# Altium footprint library fpr.PcbLib: 42 footprints (part 3 of 3)
Each footprint in its own frame and in the unit in brackets; x right, y up, seen from the top. Pads: shape width x height; smd on the part's side, far side on the other; paste and mask are expansions set on the pad; w line width, h text height; cw(c..) or ccw(c..) is an arc to the next point about the centre after c.
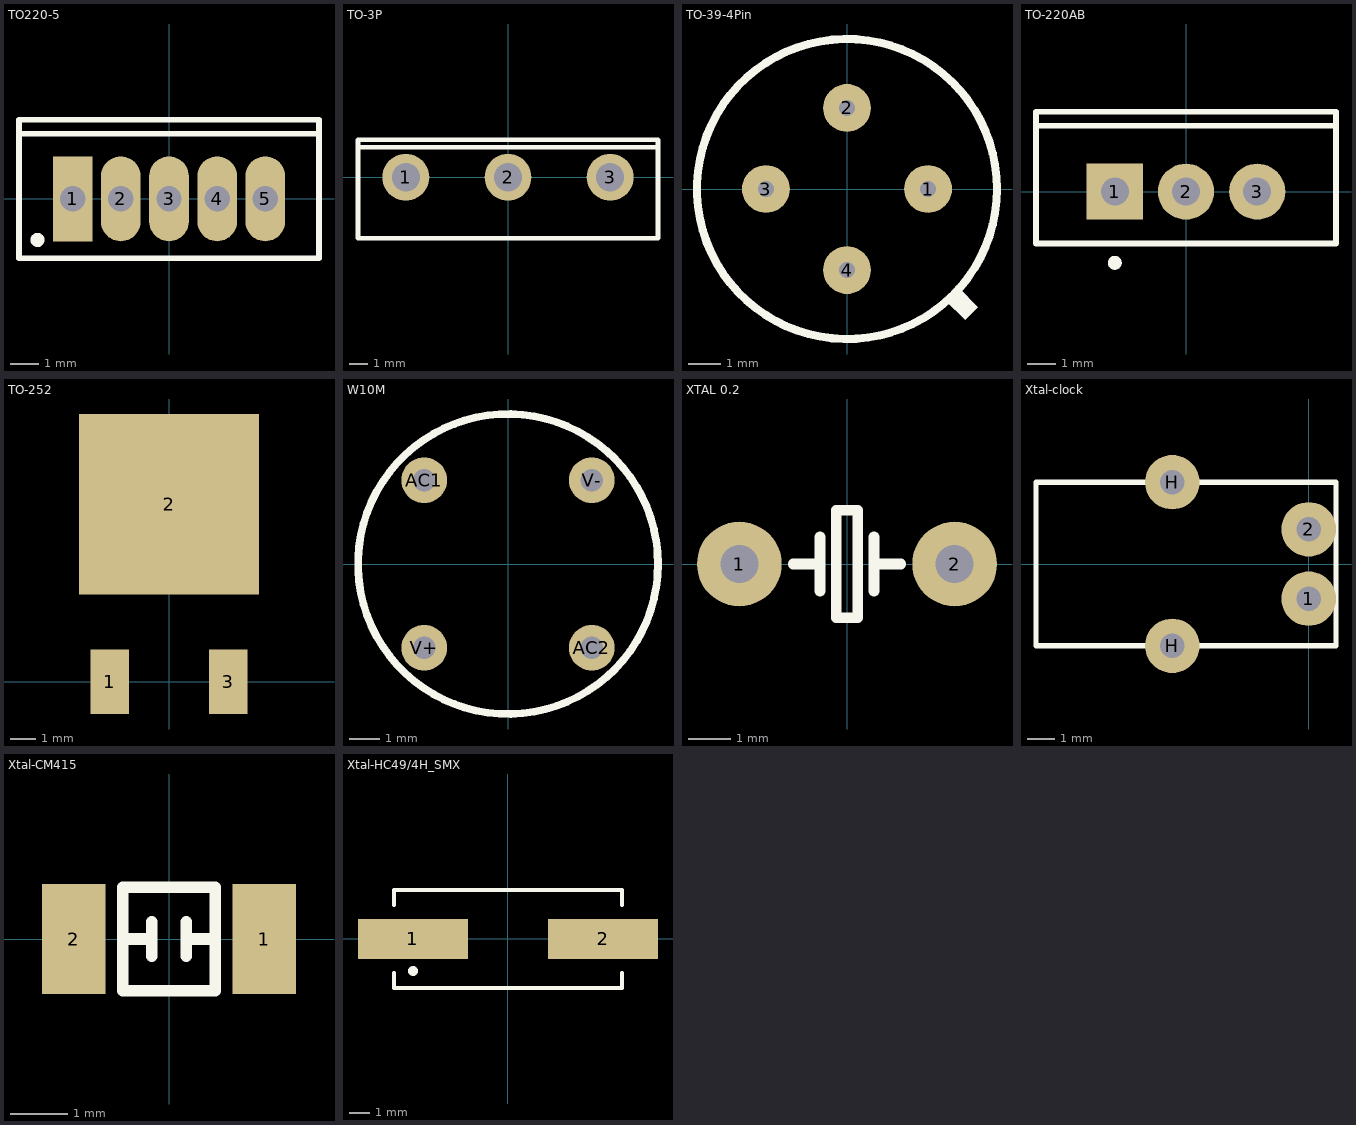
[diagram p2: the footprints below, top view; thin cyan lines are the x and y axes]

## TO220-5 [mm] "TO, Thru-Hole, Vertical, Heatsink Mounted; 5 In-Line Leads; Pitch 1.70 mm"
height 19.6
pads (5):
  rect 1.4x3 hole 0.9: 1(-3.4,0)
  oval 1.4x3 hole 0.9: 2(-1.7,0) 3(0,0) 4(1.7,0) 5(3.4,0)
Top Overlay:
  circle w0.25: c-4.65,-1.45 r0.125
  lines w0.2: -5.3,2.3 5.3,2.3 ; -5.3,-2.1 5.3,-2.1 5.3,2.8 -5.3,2.8 -5.3,-2.1
Mechanical 13:
  lines w0.1: -5.3,2.3 5.3,2.3 ; -5.3,-2.1 -5.3,2.8 5.3,2.8 5.3,-2.1 -5.3,-2.1 ; -3.91,-0.28 -3.91,0.28 -2.89,0.28 -2.89,-0.28 -3.91,-0.28 ; -2.21,-0.28 -2.21,0.28 -1.19,0.28 -1.19,-0.28 -2.21,-0.28 ; -0.51,-0.28 -0.51,0.28 0.51,0.28 0.51,-0.28 -0.51,-0.28 ; 1.19,-0.28 1.19,0.28 2.21,0.28 2.21,-0.28 1.19,-0.28 ; 2.89,-0.28 2.89,0.28 3.91,0.28 3.91,-0.28 2.89,-0.28
Mechanical 15:
  lines w0.1: -0.5,0 0.5,0 ; 0,-0.5 0,0.5
3D body "User Library-to-220-5 v2.STEP": height 16, standoff -2.48, extent -5.08,-1.59 5.08,2.86

## TO-3P [mm]
pads (3):
  round 2.5 hole 1.5: 1(-5.45,0) 2(0,0) 3(5.45,0)
Top Overlay:
  lines w0.254: -8,1.6 8,1.6 ; -8,-3.25 -8,2 8,2 8,-3.25 -8,-3.25
3D body "User Library-Fairchild_TO-3P.step": height 24.9, standoff -15, extent -7.8,-3 7.8,1.71

## TO-39-4Pin [mm]
height 4.2
pads (4):
  round 1.5 hole 0.5: 1(2.54,0) 2(0,2.54) 3(-2.54,0) 4(0,-2.54)
Top Overlay:
  circle w0.254: c0,0 r4.7
  region: 3.7,-4.1 4.1,-3.7 3.5,-3.1 3.1,-3.5
3D body "User Library-MLX90614.step": height 4.05, standoff -2, extent -6.54,-7.07 7.07,6.54

## TO-220AB [mm] "TO, Thru-Hole, Vertical, Heatsink Mounted; 3 In-Line Leads; Pitch 2.54 mm"
height 19.3
pads (3):
  rect 2x2 hole 1: 1(-2.54,0)
  round 2 hole 1: 2(0,0) 3(2.54,0)
Top Overlay:
  circle w0.25: c-2.54,-2.54 r0.125
  lines w0.2: -5.35,2.35 5.35,2.35 ; -5.35,-1.85 5.35,-1.85 5.35,2.85 -5.35,2.85 -5.35,-1.85
3D body "regulator.STEP": height 19.94, standoff -1.74, extent -5.214,-1.524 5.214,3.201

## TO-252 [mm]
pads (3):
  rect 1.5x2.5 smd: 1(-2.3,0) 3(2.3,0)
  rect 7x7 smd: 2(0,6.9)
3D body "User Library-DPAK-1.step": height 2.39, standoff -0.02, extent -3.27,-0.311 3.27,9.628

## W10M [mil]
height 236.22
pads (4):
  round 60 hole 30: AC1(-110,110) AC2(110,-110) V+(-110,-110) V-(110,110)
Top Overlay:
  circle w10: c0,0 r196.85
3D body "W10M.STEP": height 216.54, standoff -196.85, extent -179.13,-179.13 179.14,179.14

## XTAL 0.2 [mm]
pads (2):
  round 2 hole 0.9: 1(-2.54,0) 2(2.54,0)
Top Overlay:
  lines w0.254: -1.27,0 -0.635,0 ; -0.635,-0.635 -0.635,0.635 ; 0.635,-0.635 0.635,0.635 ; 0.635,0 1.27,0 ; -0.254,-1.27 0.254,-1.27 0.254,1.27 -0.254,1.27 -0.254,-1.27
3D body "SW3dPS-HP49US.STEP": height 4, standoff -3.5, extent -5.675,-2.337 5.675,2.313

## Xtal-clock [mm]
pads (4):
  round 2 hole 0.9: 1(0,-1.27) 2(0,1.27) H(-5,-3) H(-5,3)
Top Overlay:
  lines w0.2: -10,-3 1,-3 1,3 -10,3 -10,-3
3D body "User Library-DT-38.STEP": height 3, standoff -0.45, extent -10.875,-1.45 0.141,1.55

## Xtal-CM415 [mm]
pads (2):
  rect 1.1x1.9 smd: 1(1.65,0) 2(-1.65,0)
Top Overlay:
  lines w0.2: -0.8,0 -0.3,0 ; -0.3,-0.3 -0.3,0.3 ; 0.3,-0.3 0.3,0.3 ; 0.3,0 0.8,0 ; -0.8,-0.9 -0.8,0.9 0.8,0.9 0.8,-0.9 -0.8,-0.9
3D body "User Library-NDK_NX3215SA.STEP": height 0.8, standoff 0, extent -1.6,-0.75 1.6,0.75

## Xtal-HC49/4H_SMX [mm] "Quartz Crystal, SM; Body 13.4 (inc. leads) x 4.9 mm (LxW max)"
height 4.3
pads (2):
  rect 5.5x2 smd: 1(-4.75,0) 2(4.75,0)
Top Overlay:
  circle w0.25: c-4.75,-1.6 r0.125
  lines w0.2: -5.7,-1.7 -5.7,-2.45 5.7,-2.45 5.7,-1.7 ; -5.7,1.7 -5.7,2.45 5.7,2.45 5.7,1.7
3D body "User Library-Crystal HC49_US-SM.STEP": height -0.5, standoff -4.8, extent -6.4,-2.339 6.4,2.491